# EAGLE library part 691242910010 (library Eagle_WR-TBL+Rising+Cage+Clamp_rev20a)
WR-TBL Serie 2429 - 7.50 mm Horizontal Entry Modular w. Rising Cage Clamp KIND PROPERTIES Pitch 7.5 mm MATERIAL PROPERTIES Insulator Material PA66 Insulator Flammability Rating UL94 V-0 Contact Material Copper Alloy Contact Plating Tin over Nickel Contact Type Stamped Terminal Screw Material Steel Terminal Screw Plating Zinc Wire Guard Material Copper Alloy GENERAL INFORMATION Operating Temperature -30 up to +120 °C Compliance ROHS & Reach ELECTRICAL PROPERTIES IR UL 14 A IR VDE 24 A Working Voltage [UL] 300 V (AC) Working Voltage [VDE] 750 V (AC) Withstanding Voltage [UL] 1600 V (AC) Withstanding Voltage [VDE] 3000 V (AC) Contact Resistance 20 mΩ MECHANICAL PROPERTIES Wire Strip Length 6 Screw M3 CERTIFICATION UL Approval E150931 VDE Approval 40021356 PACKAGING PROPERTIES Packaging Box <https://www.we-online.com/catalog/media/o32889v209%20Family_WR-TBL2_Series2429.jpg> Details see: https://www.we-online.com/catalog/en/TBL_7_50_2429_HORIZONTAL_ENTRY_W_RISING_CAGE_6912429100xx/ Updated by Ella Wu 2019-11-27 2019(C) Wurth Elektronik
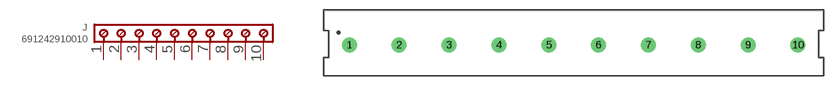
[diagram p122: symbol with the pads of 691242910010; footprint 691242910010]

Designator prefix J

## 691242910010 (IR-UL: 14A; IR-VDE: 24A; PART-NUMBER: 691242910010; PINS: 10; PITCH: 7.5mm; TYPE: Horizontal; WIRE: 12 to 30 (AWG) 3.31 to 0.0509 (mm²); WORKING-VOLTAGE-UL: 300V (AC); WORKING-VOLTAGE-VDE: 750V (AC))  [691242910010]
1  1  pas
2  2  pas
3  3  pas
4  4  pas
5  5  pas
6  6  pas
7  7  pas
8  8  pas
9  9  pas
10  10  pas

## Footprint 691242910010 (pad centres in mm)
WR-TBL Serie 2429 - 7.50 mm Horizontal Entry Modular w. Rising Cage Clamp Max Height =13.8mm , Pitch 7.5mm , 10 Pins
drill 1.5: 1 -33.75,0; 2 -26.25,0; 3 -18.75,0; 4 -11.25,0; 5 -3.75,0; 6 3.75,0; 7 11.25,0; 8 18.75,0; 9 26.25,0; 10 33.75,0